# Altium footprint library Connector.PcbLib: 112 footprints (part 4 of 7)
Each footprint in its own frame and in the unit in brackets; x right, y up, seen from the top. Pads: shape width x height; smd on the part's side, far side on the other; paste and mask are expansions set on the pad; w line width, h text height; cw(c..) or ccw(c..) is an arc to the next point about the centre after c.
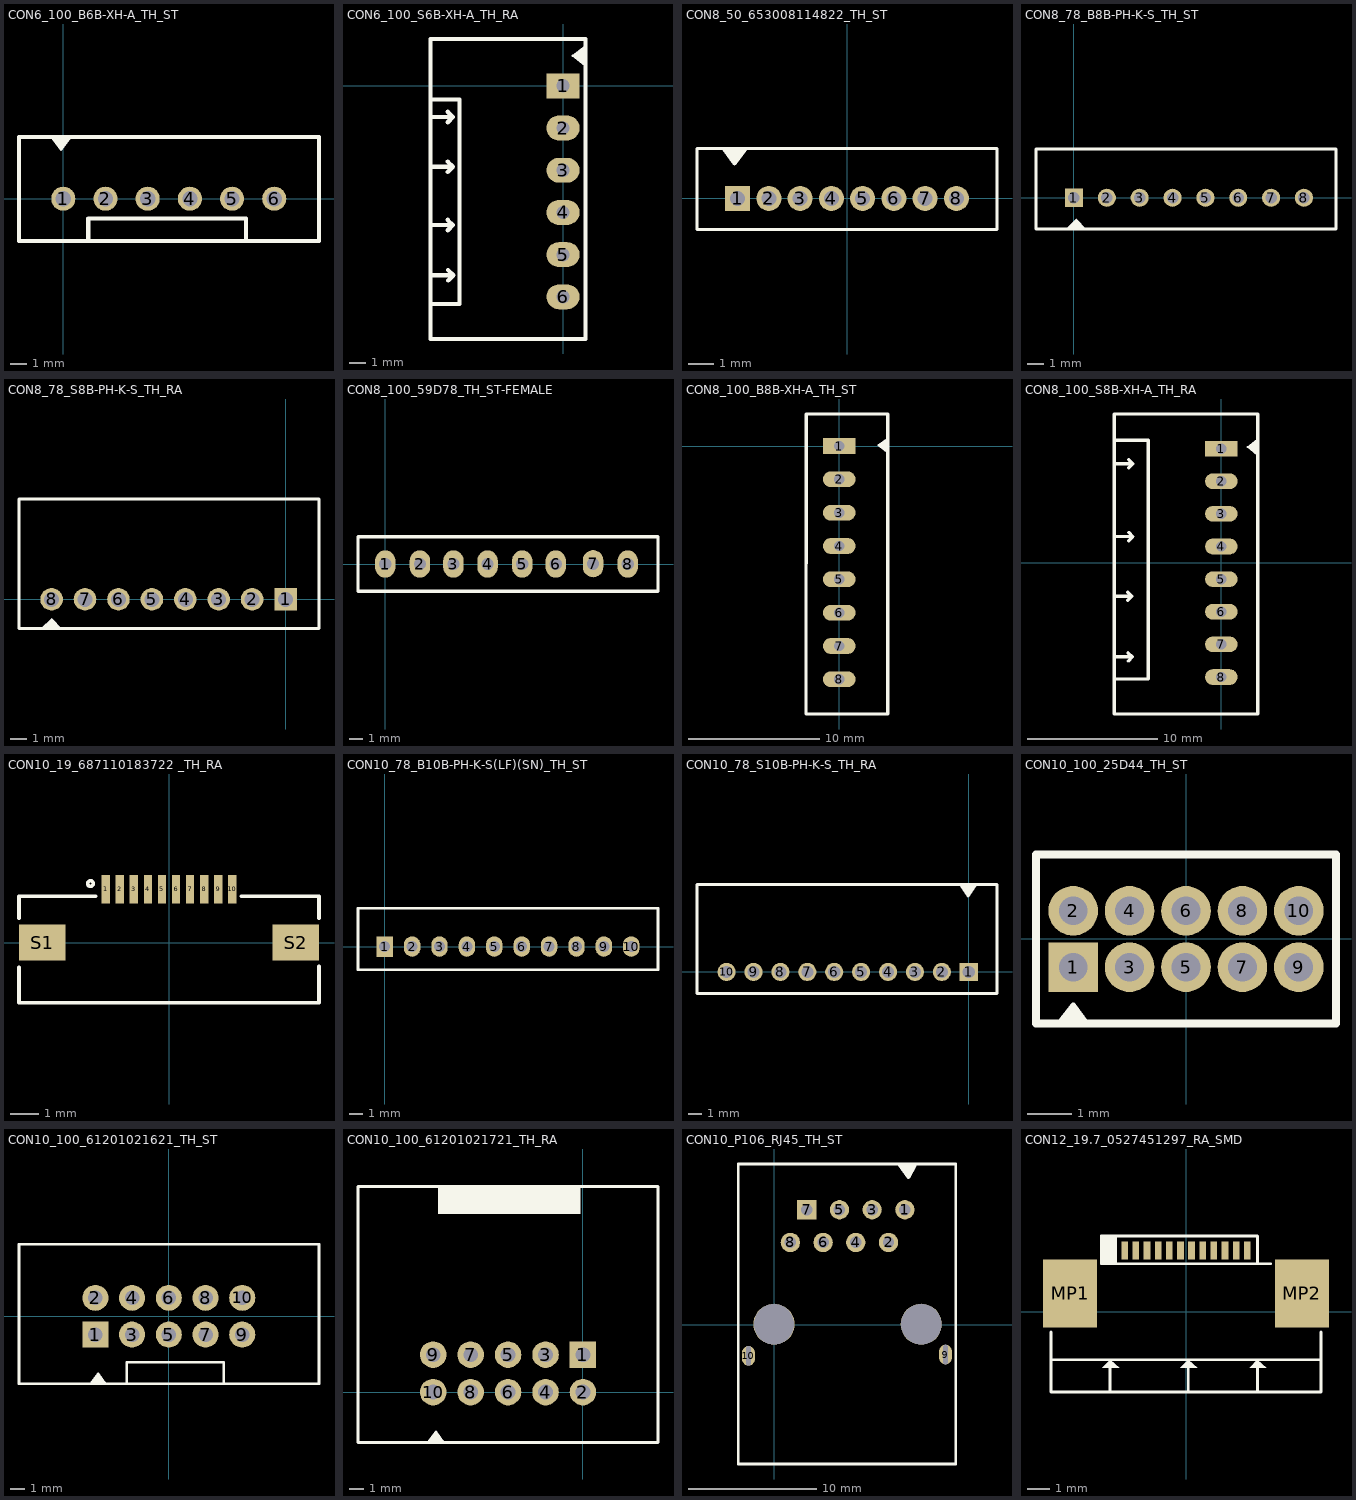
[diagram p3: the footprints below, top view; thin cyan lines are the x and y axes]

## CON6_100_B6B-XH-A_TH_ST [mm] "Connector Header"
height 7
pads (6):
  round 1.45 hole 0.91: 1(0,0) 2(2.54,0) 3(5.08,0) 4(7.62,0) 5(10.16,0) 6(12.7,0)
Top Overlay:
  region: -0.635,3.658 0.33,3.658 0.33,3.454 -0.127,2.997
  lines w0.127: -0.686,3.683 -0.133,2.946 0.449,3.695
  lines w0.254: 1.5,-2.5 1.5,-1.2 11,-1.2 11,-2.5 ; -2.667,-2.54 -2.667,3.708 15.392,3.708 15.392,-2.54 -2.667,-2.54
3D body "JST XH 6 S6B-XH-A1 shrouded header connector.SLDPRT": height 7, standoff -3.45, extent -2.42,-2.321 15.12,3.429

## CON6_100_S6B-XH-A_TH_RA [mm] "Connector Header"
height 6.1
pads (6):
  rect 2x1.5 hole 0.8: 1(0,0)
  oval 2x1.5 hole 0.8: 2(0,-2.54) 3(0,-5.08) 4(0,-7.62) 5(0,-10.16) 6(0,-12.7)
Top Overlay:
  region: 1.295,2.311 1.295,1.346 1.092,1.346 0.635,1.803
  lines w0.127: 1.321,2.362 0.584,1.809 1.333,1.227
  lines w0.254: -7.957,-8.377 -6.624,-8.377 -6.941,-8.693 ; -7.957,-4.872 -6.624,-4.872 -6.941,-5.188 ; -7.957,-1.875 -6.624,-1.875 -6.941,-2.191 ; -7.932,-11.4 -6.599,-11.4 -6.915,-11.716 ; -7.93,-13.125 -6.23,-13.125 -6.23,-0.825 -7.83,-0.825 ; -6.946,-8.066 -6.634,-8.377 ; -6.946,-4.56 -6.634,-4.872 ; -6.946,-1.563 -6.634,-1.875 ; -6.92,-11.088 -6.609,-11.4 ; -7.976,-15.24 1.346,-15.24 1.346,2.819 -7.976,2.819 -7.976,-15.24
3D body "XHP-6.STEP": height 5.7, standoff 0, extent -10.234,-14.85 -2.484,2.45
3D body "User Library-JST-XH-2_5mm-6.step": height 5.91, standoff -3.39, extent -7.7,-14.95 -0.06,2.55

## CON8_50_653008114822_TH_ST [mm] "wurth connector"
height 4.2
pads (8):
  rect 1x1 hole 0.6: 1(-4.375,0)
  round 1 hole 0.6: 2(-3.125,0) 3(-1.875,0) 4(-0.625,0) 5(0.625,0) 6(1.875,0) 7(3.125,0) 8(4.375,0)
Top Overlay:
  region: -4.925,1.95 -4.825,1.95 -4.05,1.95 -4.05,1.876 -4.52,1.406
  lines w0.127: -5.625,-1.25 6,-1.25 6,0.125 6,2 -5.625,2 ; -5.5,-1.25 -6,-1.25 -6,0 -6,2 -5.5,2 ; -4.925,1.95 -4.5,1.375 -4.05,1.95
3D body "653008114822 (rev1).stp": height 4.39, standoff -2.11, extent -5.875,-1.2 5.875,2
3D body "653008113322 (rev1).stp": height 5.02, standoff 1.07, extent -5.875,-1.2 5.875,2

## CON8_78_B8B-PH-K-S_TH_ST [mm] "Connector Header"
height 8
pads (8):
  rect 1.1x1.1 hole 0.7: 1(0,0)
  round 1.1 hole 0.7: 2(2,0) 3(4,0) 4(6,0) 5(8,0) 6(10,0) 7(12,0) 8(14,0)
Top Overlay:
  region: -0.508,-1.905 0.127,-1.27 0.762,-1.905
  lines w0.2: -2.311,-1.905 -2.311,2.972 15.95,2.972 15.95,-1.905 -2.311,-1.905
3D body "User Library-b8b-ph-ks.step": height 6.01, standoff -2.99, extent -2.159,-1.75 15.741,2.75

## CON8_78_S8B-PH-K-S_TH_RA [mm] "Connector Header"
height 4.8
pads (8):
  rect 1.35x1.35 hole 0.9: 1(0,0)
  round 1.35 hole 0.9: 2(-2,0) 3(-4,0) 4(-6,0) 5(-8,0) 6(-10,0) 7(-12,0) 8(-14,0)
Top Overlay:
  region: -14.605,-1.778 -14.605,-1.748 -14,-1.143 -13.393,-1.75 -13.208,-1.75
  lines w0.2: -15.95,-1.75 2,-1.75 2,6 -15.95,6 -15.95,-1.75
3D body "S8B-PH-K-S.STEP": height 4.9, standoff -3.3, extent -15.95,-1.2 1.95,6.4
3D body "PHR-8.STEP": height 5.07, standoff 0.58, extent -15.95,1.575 1.85,8.425

## CON8_100_59D78_TH_ST-FEMALE [mm] "Bergstrip"
height 10
pads (8):
  oval 1.5x2 hole 0.9: 1(0,0) 2(2.54,0) 3(5,0) 4(7.5,0) 5(10.04,0) 6(12.5,0) 7(15.24,0.025) 8(17.78,0)
Top Overlay:
  lines w0.254: -2,-2 -2,2 20,2 20,-2 -2,-2
3D body "User Library-zl262-8s_p2-54_l20-82_w2-54_h8-5.step": height 8.51, standoff -2.99, extent -1.647,-1.143 19.173,1.397

## CON8_100_B8B-XH-A_TH_ST [mm] "Connector Header"
height 7
pads (8):
  rect 2.5x1.2 hole 0.8: 1(0,0)
  oval 2.5x1.2 hole 0.8: 2(0,-2.54) 3(0,-5.08) 4(0,-7.62) 5(0,-10.16) 6(0,-12.7) 7(0,-15.24) 8(0,-17.78)
Top Overlay:
  region: 3.683,0.559 3.683,-0.406 3.48,-0.406 3.023,0.051
  lines w0.127: 3.708,0.61 2.971,0.057 3.72,-0.526
  lines w0.254: -2.54,-20.066 -2.54,2.438 3.683,2.438 3.683,-20.422 -2.541,-20.422 -2.515,2.413 -2.54,-5.08
3D body "XHP-8.STEP": height 8.31, standoff 0.57, extent -1.9,-20.3 3.8,2
3D body "User Library-B8B-XH-A.step": height 7.01, standoff -3.39, extent -2.275,-20.2 3.475,2.2

## CON8_100_S8B-XH-A_TH_RA [mm] "Connector Header"
height 6.1
pads (8):
  rect 2.5x1.2 hole 0.8: 1(0,8.75)
  oval 2.5x1.2 hole 0.8: 2(0,6.25) 3(0,3.75) 4(0,1.25) 5(0,-1.25) 6(0,-3.75) 7(0,-6.25) 8(0,-8.75)
Top Overlay:
  region: 2.718,9.373 2.718,8.407 2.515,8.407 2.057,8.865
  lines w0.127: 2.743,9.423 2.006,8.871 2.755,8.288
  lines w0.254: -8.186,-2.56 -6.853,-2.56 -7.169,-2.877 ; -8.179,9.4 -5.6,9.4 -5.6,-8.9 -8.077,-8.9 ; -8.16,-7.209 -6.828,-7.209 -7.144,-7.525 ; -8.109,2.012 -6.777,2.012 -7.093,1.695 ; -8.109,7.6 -6.777,7.6 -7.093,7.283 ; -7.174,-2.249 -6.863,-2.56 ; -7.149,-6.897 -6.838,-7.209 ; -7.098,2.323 -6.787,2.012 ; -7.098,7.911 -6.787,7.6 ; -8.204,-11.582 2.794,-11.582 2.794,11.4 -8.204,11.4 -8.204,-11.582
3D body "S8B-XH-A.STEP": height 6.16, standoff -3.39, extent -9.25,-11.2 2.25,11.2
3D body "XHP-8.STEP": height 5.7, standoff 0, extent -11.5,-11.1 -3.75,11.2

## CON10_19_687110183722 _TH_RA [mm] "10 PIN FPC Connector"
height 1.2
pads (12):
  rect 0.3x1 smd: 1(-2.25,1.9) 2(-1.75,1.9) 3(-1.25,1.9) 4(-0.75,1.9) 5(-0.25,1.9) 6(0.25,1.9) 7(0.75,1.9) 8(1.25,1.9) 9(1.75,1.9) 10(2.25,1.9)
  rect 1.65x1.3 smd: S1(-4.525,0) S2(4.525,0)
Top Overlay:
  circle w0.127: c-2.8,2.1 r0.1
  lines w0.127: -5.35,-0.89 -5.35,-2.15 5.35,-2.15 5.35,-0.84 ; -5.35,0.87 -5.35,1.65 -2.62,1.65 ; 2.58,1.65 5.35,1.65 5.35,0.87
3D body "affc20-10-050-sht-t.stp": height 2.02, standoff -0.02, extent -5.224,-3.368 5.276,2.032

## CON10_78_B10B-PH-K-S(LF)(SN)_TH_ST [mm] "JST CONNECTOR"
height 6
pads (10):
  rect 1.2x1.5 hole 0.8: 1(0,0)
  oval 1.2x1.5 hole 0.8: 2(2,0) 3(4,0) 4(6,0) 5(8,0) 6(10,0) 7(12,0) 8(14,0) 9(16,0) 10(18,0)
Top Overlay:
  lines w0.2: -1.95,-1.7 -1.95,2.8 19.95,2.8 19.95,-1.7 -1.95,-1.7
3D body "User Library-b10b-ph-ks.step": height 6.01, standoff -2.99, extent -1.882,-1.742 20.018,2.758

## CON10_78_S10B-PH-K-S_TH_RA [mm] "Connector Header Through Hole, Right Angle 10 position 0.079\" (2.00mm)"
height 4.8
pads (10):
  rect 1.35x1.35 hole 0.9: 1(0,0)
  round 1.35 hole 0.9: 2(-2,0) 3(-4,0) 4(-6,0) 5(-8,0) 6(-10,0) 7(-12,0) 8(-14,0) 9(-16,0) 10(-18,0)
Top Overlay:
  region: 0.6,6.45 -0.6,6.45 0,5.55
  lines w0.127: -0.667,6.5 -0.067,5.6 0.533,6.5
  lines w0.2: -20.2,-1.6 2.1,-1.6 2.1,6.5 -20.2,6.5 -20.2,-1.6
3D body "S10B-PH-K-S.STEP": height 4.81, standoff -3.39, extent -20.05,-1.3 1.85,6.3
3D body "PHR-10.STEP": height 5.07, standoff 0.58, extent -20,1.25 1.8,8.1

## CON10_100_25D44_TH_ST [mil] "Berg Strip"
height 452.76
pads (10):
  rect 44x44 hole 25.59 paste-39370.1 mask+0: 1(-100,-25)
  round 44 hole 25.59 paste-39370.1 mask+0: 2(-100,25) 3(-50,-25) 4(-50,25) 5(0,-25) 6(0,25) 7(50,-25) 8(50,25) 9(100,-25) 10(100,25)
Top Overlay:
  region: -110,-74 -110,-71 -100,-61 -91,-70 -91,-73
  lines w5: -110.93,-73.05 -100,-59 -88,-75
  lines w7.01: -125,-75 133,-75 133,75 -133,75 -133,-75 125,-75
3D body "3dmodel.step": height 157.53, standoff -90.51, extent -124.87,-66.38 125.13,67.48

## CON10_100_61201021621_TH_ST [mm] "Connector Header"
height 9.1
pads (10):
  rect 1.8x1.8 hole 1 paste-1000 mask+0: 1(-5.08,-1.27)
  round 1.8 hole 1 paste-1000 mask+0: 2(-5.08,1.27) 3(-2.54,-1.27) 4(-2.54,1.27) 5(0,-1.27) 6(0,1.27) 7(2.54,-1.27) 8(2.54,1.27) 9(5.08,-1.27) 10(5.08,1.27)
Top Overlay:
  region: -5.41,-4.674 -5.41,-4.597 -4.902,-3.962 -4.369,-4.619
  lines w0.127: -5.434,-4.65 -4.888,-3.948 -4.386,-4.617
  lines w0.178: -2.921,-4.597 -2.921,-3.175 3.81,-3.175 3.81,-3.429 3.81,-4.648
  lines w0.2: -10.363,-4.674 -10.363,4.978 10.389,4.978 10.389,-4.674 -10.363,-4.674
3D body "Conn_TE_2-1761603-3_eec.STEP": height 9.22, standoff -2.59, extent -10.16,-4.445 10.16,4.775

## CON10_100_61201021721_TH_RA [mm] "Connector Header"
height 9.1
pads (10):
  rect 1.8x1.8 hole 1 paste-1000 mask+0: 1(0.01,2.54)
  round 1.8 hole 1 paste-1000 mask+0: 2(0.01,0) 3(-2.53,2.54) 4(-2.53,0) 5(-5.07,2.54) 6(-5.07,0) 7(-7.61,2.54) 8(-7.61,0) 9(-10.15,2.54) 10(-10.15,0)
Top Overlay:
  rectangle: -9.825,12.075 -0.15,14
  region: -10.48,-3.404 -10.48,-3.327 -9.972,-2.692 -9.439,-3.349
  lines w0.127: -10.504,-3.38 -9.958,-2.678 -9.456,-3.347
  lines w0.2: -15.25,-3.404 5.1,-3.404 5.1,13.95 -15.25,13.95 -15.25,-3.404
3D body "61201023021 (rev1).stp": height 7.32, standoff 0.46, extent -14.278,5.7 3.102,21.4
3D body "61201021721 (rev1).stp": height 8.86, standoff -2.96, extent -15.28,-0.225 5.08,13.325

## CON10_P106_RJ45_TH_ST [mm] "LAN Connector"
height 13.5
pads (12):
  round 1.5 hole 0.89 paste-1000 mask+0: 1(10.145,8.945) 2(8.875,6.405) 3(7.605,8.945) 4(6.335,6.405) 5(5.065,8.945) 6(3.795,6.405) 8(1.255,6.405)
  rect 1.5x1.5 hole 0.89 paste-1000 mask+0: 7(2.525,8.945)
  oval 1x1.524 hole 1.5 slot 0.35 at 0 deg: 9(13.3,-2.3) 10(-2,-2.4)
  round 3.18 hole 3.12 unplated paste-1000 mask+0: ""(-0.015,0.055) ""(11.415,0.055)
Top Overlay:
  region: 10.389,11.532 10.389,11.709 9.703,12.395 9.754,12.446 10.947,12.446
  lines w0.2: -2.794,-10.8 14.097,-10.8 14.097,12.497 -2.794,12.497 -2.794,-10.8
  lines w0.254: 9.728,12.421 10.414,11.455 10.958,12.434
3D body "1-406541-5.stp": height 13.04, standoff -4.49, extent -2.528,-3.5 13.728,12.248

## CON12_19.7_0527451297_RA_SMD [mm] "CONNECTOR"
height 2
pads (14):
  rect 0.3x0.8 smd mask+0.076: 1(-2.75,2.75) 2(-2.25,2.75) 3(-1.75,2.75) 4(-1.25,2.75) 5(-0.75,2.75) 6(-0.25,2.75) 7(0.25,2.75) 8(0.75,2.75) 9(1.25,2.75) 10(1.75,2.75) 11(2.25,2.75) 12(2.75,2.75)
  rect 2.4x3.05 smd mask+0.076: MP1(-5.2,0.825) MP2(5.2,0.825)
Top Overlay:
  rectangle: -3.8,2.15 -3.1,3.4
  region: 3.2,-2.15 2.85,-2.5 3.6,-2.5
  region: 0.1,-2.15 -0.25,-2.5 0.5,-2.5
  region: -3.4,-2.15 -3.75,-2.5 -3,-2.5
  lines w0.127: -3.4,-3.6 -3.4,-2.15 ; 0.1,-3.6 0.1,-2.15 ; 3.2,-3.6 3.2,-2.15 ; 3.2,2.15 3.2,3.4 -3.8,3.4 -3.8,2.15 3.8,2.15 ; -6.05,-3.6 6.05,-3.6 6.05,-0.9 6.05,-2.15 -6.05,-2.15 -6.05,-0.9 -6.05,-3.6
3D body "52745-1297.stp": height 2.01, standoff 0.01, extent -6.05,-3.5 6.05,2.9